# EAGLE library part FS3000 (library FS3000)
FS3000 Air Velocity Sensor Module by Renesas -Surface-mount type air velocity module utilizing a MEMS thermopile-based sensor. -Digital output with 12-bit resolution. The sensor comprises a “solid” thermal isolation technology and siliconcarbide coating to protect it from abrasive wear and water condensation. -Compact design fit for low profile enclosures.
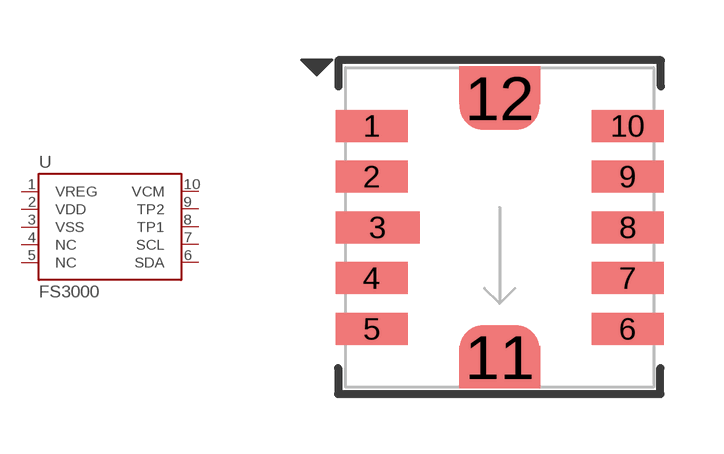
[diagram p0: symbol with the pads of FS3000; footprint FS3000]

Designator prefix U

## FS3000 (PROD_ID: IC-16078; VALUE: FS3000)  [FS3000]
1  VREG
2  VDD
3  VSS
4  NC  nc
5  NC  nc
6  SDA
7  SCL
8  TP1
9  TP2
10  VCM

## Footprint FS3000 (pad centres in mm)
smd 1.8 x 0.8: 1 -3.2,2.54; 2 -3.2,1.27; 4 -3.2,-1.27; 5 -3.2,-2.54; 6 3.2,-2.54; 7 3.2,-1.27; 8 3.2,0; 9 3.2,1.27; 10 3.2,2.54
smd 2.1 x 0.8: 3 -3.05,0
smd 2 x 1.59: 11 0,-3.24; 12 0,3.24